# EAGLE library part CDCS502 (library Components)
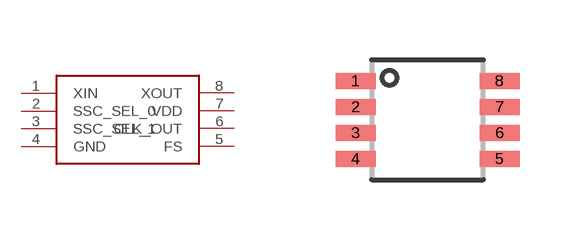
[diagram p3: symbol with the pads of SSOP-8; footprint SSOP-8]

Designator prefix -

## CDCS502  [SSOP-8]
1  XIN
2  SSC_SEL_0
3  SSC_SEL_1
4  GND
5  FS
6  CLK_OUT
7  VDD
8  XOUT

## Footprint SSOP-8 (pad centres in mm)
smd 1 x 0.4: 1 -1.8,0.975; 2 -1.8,0.325; 3 -1.8,-0.325; 4 -1.8,-0.975; 5 1.8,-0.975; 6 1.8,-0.325; 7 1.8,0.325; 8 1.8,0.975